# Altium footprint library Const_Cur_Source.PCBLIB: 58 footprints (part 1 of 4)
Each footprint in its own frame and in the unit in brackets; x right, y up, seen from the top. Pads: shape width x height; smd on the part's side, far side on the other; paste and mask are expansions set on the pad; w line width, h text height; cw(c..) or ccw(c..) is an arc to the next point about the centre after c.
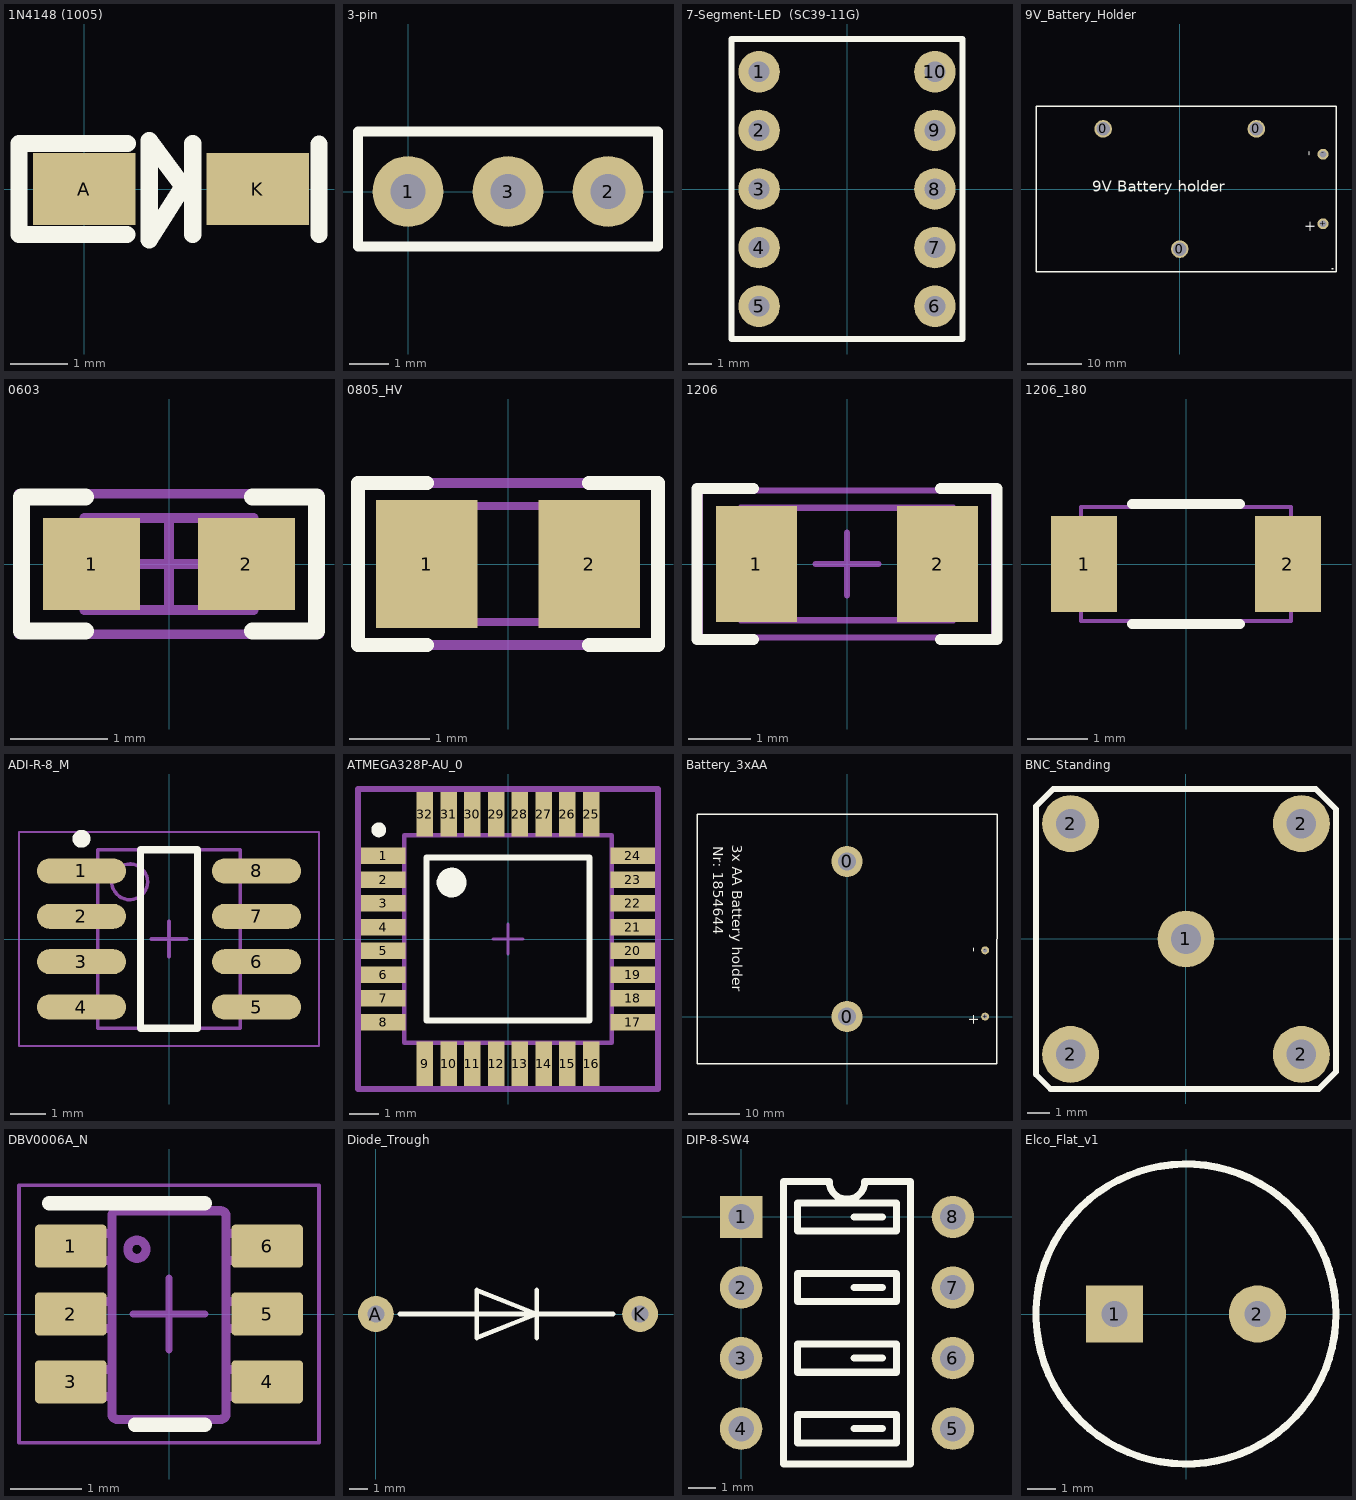
[diagram p0: the footprints below, top view; thin cyan lines are the x and y axes]

## 1N4148 (1005) [mm]
pads (2):
  rect 1.8x1.27 smd: A(0,0) K(3.05,0)
Top Overlay:
  lines w0.305: 0.75,-0.8 -1.143,-0.8 -1.143,0.8 0.755,0.8 ; 1.143,0.8 1.143,-0.889 1.74,0.051 1.143,0.851 ; 1.905,-0.8 1.905,0.8 ; 4.125,-0.8 4.125,0.786

## 3-pin [mm]
pads (3):
  round 1.8 hole 0.9: 1(0,0) 2(5.08,0) 3(2.54,0)
Top Overlay:
  lines w0.254: -1.27,-1.397 6.35,-1.397 6.35,1.524 -1.27,1.524 -1.27,-1.397

## 7-Segment-LED  (SC39-11G) [mm]
pads (10):
  round 1.8 hole 0.9: 1(-3.81,5.08) 2(-3.81,2.54) 3(-3.81,0) 4(-3.81,-2.54) 5(-3.81,-5.08) 6(3.81,-5.08) 7(3.81,-2.54) 8(3.81,0) 9(3.81,2.54) 10(3.81,5.08)
Top Overlay:
  lines w0.254: -5,-6.5 5,-6.5 5,6.5 -5,6.5 ; -5,-6.477 -5,6.477

## 9V_Battery_Holder [mm]
pads (5):
  round 3.2 hole 2.5: 0(-14,11) 0(0,-11) 0(14,11)
  round 2 hole 1.2: +(26.2,-6.35) -(26.2,6.35)
Top Overlay:
  lines w0.254: 27.813,-14.605 28.067,-14.605 ; -26.289,-15.113 28.575,-15.113 28.575,15.113 -26.289,15.113 -26.289,-15.113
  text "+" at 23.004,-5.684 h2
  text "-" at 22.972,7.016 h2
  text "9V Battery holder" at -16.033,-0.508 h2

## 0603 [mm]
pads (2):
  rect 1x0.95 smd: 1(-0.8,0) 2(0.8,0)
Top Overlay:
  lines w0.178: -0.864,-0.691 -1.524,-0.691 -1.524,0.693 -0.864,0.693 ; 0.864,-0.691 1.524,-0.691 1.524,0.693 0.864,0.693
tValues:
  lines w0.1: -1.55,-0.725 1.55,-0.725 1.55,0.725 -1.55,0.725 -1.55,-0.725
  text ".Designator" at 1.27,0.432 h0.76
tTest:
  lines w0.1: -0.55,-0.475 -0.55,0.475 ; 0.55,-0.475 0.55,0.475 ; -0.875,-0.475 -0.875,0.475 0.875,0.475 0.875,-0.475 -0.875,-0.475
Unrouted:
  lines w0.1: -0.475,0 0.475,0 ; 0,-0.475 0,0.475 ; -1.55,-0.725 -1.55,0.725 1.55,0.725 1.55,-0.725 -1.55,-0.725
3D body: height 1, standoff 0, extent 0.551,-0.474 0.874,0.474
3D body: height 1, standoff 0, extent -0.549,-0.474 0.549,0.474
3D body: height 1, standoff 0, extent -0.874,-0.474 -0.551,0.474

## 0805_HV [mil]
pads (2):
  rect 50x63 smd: 1(-40,0) 2(40,0)
Top Overlay:
  lines w7: -40,-40 -74,-40 -74,0 -74,40 -40,40 ; 40,-40 74,-40 74,0 74,40 40,40
tValues:
  lines w5: -74,-40 74,-40 74,40 -74,40 -74,-40
  text ".Designator" at 60,11.67 h30
tTest:
  lines w3.94: -25.59,-28.54 -25.59,28.54 ; 25.59,-28.54 25.59,28.54 ; -43.31,-28.54 43.31,-28.54 43.31,28.54 -43.31,28.54 -43.31,-28.54
3D body: height 57.09, standoff 0, extent -43.29,-28.52 -25.61,28.52
3D body: height 57.09, standoff 0, extent -25.57,-28.52 25.57,28.52
3D body: height 57.09, standoff 0, extent 25.61,-28.52 43.29,28.52

## 1206 [mm]
pads (2):
  rect 1.3x1.85 smd: 1(-1.45,0) 2(1.45,0)
Top Overlay:
  lines w0.178: -1.5,-1.21 -2.4,-1.21 -2.4,1.21 -1.5,1.21 ; 1.5,-1.21 2.4,-1.21 2.4,1.21 1.5,1.21
tValues:
  lines w0.1: -1.7,-0.9 1.7,-0.9 1.7,0.9 -1.7,0.9 -1.7,-0.9
  text ".Designator" at 1.143,0.483 h0.76
tTest:
  lines w0.1: -1.2,-0.9 -1.2,0.9 ; 1.2,-0.9 1.2,0.9 ; -1.7,-0.9 1.7,-0.9 1.7,0.9 -1.7,0.9 -1.7,-0.9
Unrouted:
  lines w0.1: -0.5,0 0.5,0 ; 0,-0.5 0,0.5 ; -2.35,-1.175 2.35,-1.175 2.35,1.175 -2.35,1.175 -2.35,-1.175
3D body: height 1.35, standoff 0, extent -1.699,-0.899 -1.201,0.899
3D body: height 1.35, standoff 0, extent -1.199,-0.899 1.199,0.899
3D body: height 1.35, standoff 0, extent 1.201,-0.899 1.699,0.899

## 1206_180 [mm]
pads (2):
  rect 1.1x1.6 smd: 1(-1.7,0) 2(1.7,0)
Top Overlay:
  lines w0.17: -0.9,-1 0.9,-1 ; -0.9,1 0.9,1
tValues:
  lines w0.07: -1.75,-0.95 1.75,-0.95 1.75,0.95 -1.75,0.95 -1.75,-0.95
  text ".Designator" at 1.185,0.635 h0.76
3D body: height 1.9, standoff 0, extent -1.749,-0.949 -1.301,0.949
3D body: height 1.9, standoff 0, extent -1.299,-0.949 1.299,0.949
3D body: height 1.9, standoff 0, extent 1.301,-0.949 1.749,0.949

## ADI-R-8_M [mm]
pads (8):
  oval 2.5x0.7 smd: 1(-2.45,1.905) 2(-2.45,0.635) 3(-2.45,-0.635) 4(-2.45,-1.905) 5(2.45,-1.905) 6(2.45,-0.635) 7(2.45,0.635) 8(2.45,1.905)
Top Overlay:
  circle w0.25: c-2.45,2.805 r0.125
  lines w0.2: -0.8,-2.5 0.8,-2.5 0.8,2.5 -0.8,2.5 -0.8,-2.5
tTest:
  circle w0.1: c-1.1,1.6 r0.5
  lines w0.1: -2,-2.5 2,-2.5 2,2.5 -2,2.5 -2,-2.5
Unrouted:
  lines w0.05: -4.2,-3 4.2,-3 4.2,3 -4.2,3 -4.2,-3
  lines w0.1: -0.5,0 0.5,0 ; 0,-0.5 0,0.5
3D body: height 1.75, standoff 0.1, extent -2,-2.5 2,2.5

## ATMEGA328P-AU_0 [mm]
pads (32):
  rect 1.5x0.55 smd paste+0 mask+0: 1(-4.2,2.8) 2(-4.2,2) 3(-4.2,1.2) 4(-4.2,0.4) 5(-4.2,-0.4) 6(-4.2,-1.2) 7(-4.2,-2) 8(-4.2,-2.8) 17(4.2,-2.8) 18(4.2,-2) 19(4.2,-1.2) 20(4.2,-0.4) 21(4.2,0.4) 22(4.2,1.2) 23(4.2,2) 24(4.2,2.8)
  rect 0.55x1.5 smd paste+0 mask+0: 9(-2.8,-4.2) 10(-2,-4.2) 11(-1.2,-4.2) 12(-0.4,-4.2) 13(0.4,-4.2) 14(1.2,-4.2) 15(2,-4.2) 16(2.8,-4.2) 25(2.8,4.2) 26(2,4.2) 27(1.2,4.2) 28(0.4,4.2) 29(-0.4,4.2) 30(-1.2,4.2) 31(-2,4.2) 32(-2.8,4.2)
Top Overlay:
  circle w0.5: c-1.9,1.9 r0.25
  circle w0.25: c-4.35,3.675 r0.125
  lines w0.2: -2.75,-2.75 -2.75,2.75 2.75,2.75 2.75,-2.75 -2.75,-2.75
bOrigins:
  lines w0.2: -5.05,-5.05 -5.05,5.05 5.05,5.05 5.05,-5.05 -5.05,-5.05
  text ".Designator" at 0,0 h1
bGlue:
  lines w0.15: -3.5,-3.5 -3.5,3.5 3.5,3.5 3.5,-3.5 -3.5,-3.5
Unrouted:
  lines w0.1: -0.5,0 0.5,0 ; 0,-0.5 0,0.5
  lines w0.2: -5.05,-5.05 -5.05,5.05 5.05,5.05 5.05,-5.05 -5.05,-5.05
3D body "3dmodel.step": height 0.25, standoff 0, extent -5.05,-5.05 5.05,5.05

## Battery_3xAA [mm]
pads (4):
  round 6 hole 3.5: 0(0,0) 0(0,30)
  round 1.524 hole 0.762: +(26.7,0) -(26.7,12.8)
Top Overlay:
  lines w0.254: -29,-9.15 -29,39.15 29,39.15 29,-9.15 -29,-9.15
  text "Nr: 1854644" at -25.862,32.974 h2
  text "3x AA Battery holder" at -22.148,33.228 h2
  text "+" at 23.589,0.589 h2
  text "-" at 23.684,13.416 h2

## BNC_Standing [mm]
pads (5):
  round 2.5 hole 1.3: 1(0,0) 2(-5.08,-5.08) 2(-5.08,5.08) 2(5.08,-5.08) 2(5.08,5.08)
Top Overlay:
  lines w0.254: -6.604,-5.969 -5.969,-6.604 5.842,-6.604 6.604,-5.842 6.604,5.715 5.715,6.604 -5.842,6.604 -6.604,5.842 -6.604,-5.969
3D body: height 2.1, standoff 0, extent -6.604,-6.604 6.604,6.604
3D body: height 13, standoff 2.1, extent -4.85,-4.85 4.85,4.85

## DBV0006A_N [mm]
pads (6):
  rrect17% 1x0.6 smd: 1(-1.375,0.95) 2(-1.375,0) 3(-1.375,-0.95) 4(1.375,-0.95) 5(1.375,0) 6(1.375,0.95)
Top Overlay:
  lines w0.2: -1.675,1.55 0.5,1.55 ; -0.475,-1.55 0.5,-1.55
tValues:
  lines w0.127: 0.724,-1.475 ccw(c0.723,-1.399) 0.8,-1.399 0.8,1.37 ccw(c0.723,1.37) 0.724,1.446 ; 0.723,-1.475 0.724,-1.475 ; 0.723,-1.475 -0.724,-1.475 -0.725,-1.475 cw(c-0.724,-1.399) -0.801,-1.399 -0.801,1.37 cw(c-0.724,1.37) -0.725,1.446 -0.724,1.446 0.723,1.446 ; 0.723,1.446 0.724,1.446 ; -1.423,-1.154 -1.206,-1.154 -1.113,-1.154 -1.081,-1.154 -0.828,-1.154 -0.801,-1.154 -0.801,-0.78 -0.828,-0.78 -1.081,-0.78 -1.113,-0.78 -1.206,-0.78 -1.423,-0.78 -1.423,-1.154 ; -1.423,-0.202 -1.206,-0.202 -1.113,-0.202 -1.081,-0.202 -0.828,-0.202 -0.801,-0.202 -0.801,0.173 -0.828,0.173 -1.081,0.173 -1.113,0.173 -1.206,0.173 -1.423,0.173 -1.423,-0.202 ; -1.423,0.751 -1.206,0.751 -1.113,0.751 -1.081,0.751 -0.828,0.751 -0.801,0.751 -0.801,1.125 -0.828,1.125 -1.081,1.125 -1.113,1.125 -1.206,1.125 -1.423,1.125 -1.423,0.751 ; -0.577,0.906 cw(c-0.45,0.906) -0.323,0.906 cw(c-0.45,0.906) -0.577,0.906 ; 0.8,-1.154 0.827,-1.154 1.08,-1.154 1.112,-1.154 1.205,-1.154 1.422,-1.154 1.422,-0.78 1.205,-0.78 1.112,-0.78 1.08,-0.78 0.827,-0.78 0.8,-0.78 0.8,-1.154 ; 0.8,-0.202 0.827,-0.202 1.08,-0.202 1.112,-0.202 1.205,-0.202 1.422,-0.202 1.422,0.173 1.205,0.173 1.112,0.173 1.08,0.173 0.827,0.173 0.8,0.173 0.8,-0.202 ; 0.8,0.751 0.827,0.751 1.08,0.751 1.112,0.751 1.205,0.751 1.422,0.751 1.422,1.125 1.205,1.125 1.112,1.125 1.08,1.125 0.827,1.125 0.8,1.125 0.8,0.751
  text ".Designator" at -0.166,0.887 h0.76
Unrouted:
  lines w0.05: -2.1,-1.8 2.1,-1.8 2.1,1.8 -2.1,1.8 -2.1,-1.8
  lines w0.1: -0.5,0 0.5,0 ; 0,-0.5 0,0.5
3D body "DBV0006A.stp": height 1.12, standoff 0, extent -1.422,-1.461 1.423,1.46

## Diode_Trough [mm]
pads (2):
  round 1.9 hole 0.9: A(0,0) K(14,0)
Top Overlay:
  lines w0.254: 1.27,0 12.573,0 ; 8.52,-1.27 8.52,1.27 ; 5.345,-1.27 8.52,0 5.345,1.27 5.345,-1.27

## DIP-8-SW4 [mil]
pads (8):
  rect 60x60 hole 36: 1(0,0)
  round 60 hole 36: 2(0,-100) 3(0,-200) 4(0,-300) 5(300,-300) 6(300,-200) 7(300,-100) 8(300,0)
Top Overlay:
  lines w10: 160,-300 200,-300 ; 160,-200 200,-200 ; 160,-100 200,-100 ; 160,0 200,0 ; 60,-350 240,-350 240,50 175,50 cw(c150,50) 125,50 60,50 60,-350 ; 80,-320 220,-320 220,-280 80,-280 80,-320 ; 80,-220 220,-220 220,-180 80,-180 80,-220 ; 80,-120 220,-120 220,-80 80,-80 80,-120 ; 80,-20 220,-20 220,20 80,20 80,-20

## Elco_Flat_v1 [mm]
pads (2):
  rect 2x2 hole 0.9: 1(-2.5,0)
  round 2 hole 0.9: 2(2.5,0)
Top Overlay:
  circle w0.254: c0,0 r5.25